# Altium footprint library TO-263-5.PcbLib: 1 footprints
Each footprint in its own frame and in the unit in brackets; x right, y up, seen from the top. Pads: shape width x height; smd on the part's side, far side on the other; paste and mask are expansions set on the pad; w line width, h text height; cw(c..) or ccw(c..) is an arc to the next point about the centre after c.
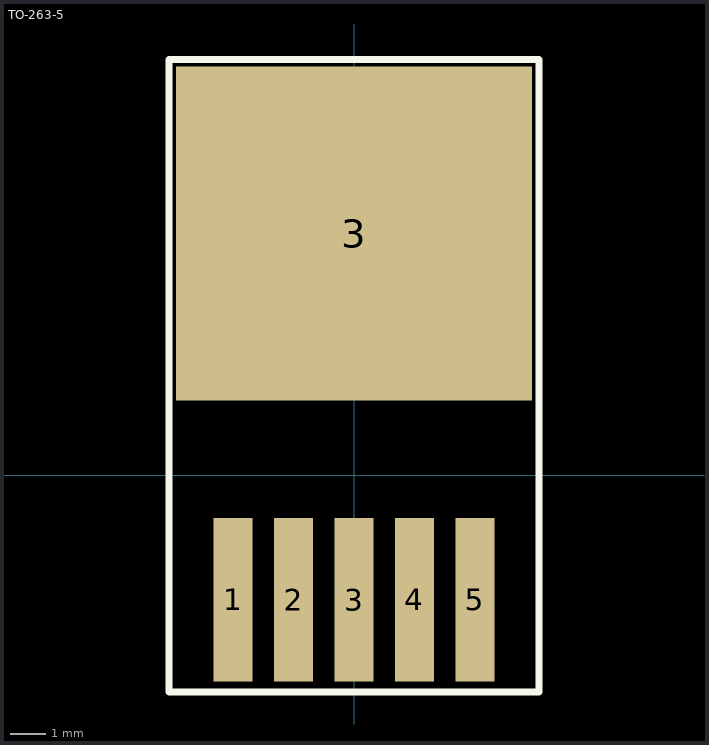
[diagram p0: the footprint, top view; thin cyan lines are the x and y axes]

## TO-263-5 [mm]
height 1.1
pads (6):
  rect 1.1x4.6 smd: 1(-3.4,-3.5) 2(-1.7,-3.5) 3(0,-3.5) 4(1.7,-3.5) 5(3.4,-3.5)
  rect 10x9.4 smd: 3(0,6.8)
Top Overlay:
  lines w0.2: -5.2,-6.1 5.2,-6.1 5.2,11.7 -5.2,11.7 -5.2,-6.1
Top Assembly:
  lines w0.1: -5.2,-6.1 -5.2,11.7 5.2,11.7 5.2,0 5.2,-6.1 -5.2,-6.1
  text "'.Designator'" at 0,0 h0.7
3D body "User Library-TO263-5.STEP": height 4.88, standoff 0.08, extent -5,-4.99 5,10.68